# EAGLE library part DIODE-QUAD-SOT363-06 (library QuantumOptics)
Quad Diode Array, Diodes Inc, BAS70 series and similar, very small package SOT363. Based on BAS70DW <http://www.diodes.com/datasheets/ds30158.pdf>, http://www.diodes.com/datasheets/ds30158.pdf.
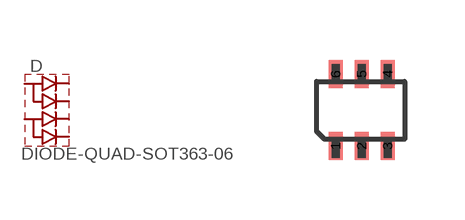
[diagram p75: symbol with the pads of SOT363; footprint SOT363]

Designator prefix D

## DIODE-QUAD-SOT363-06  [SOT363]
1  C1A  pas
2  C1B  pas
3  A2  pas
4  C2A  pas
5  C2B  pas
6  A1  pas

## Footprint SOT363 (pad centres in mm)
SOT-636, industry standard 6-pin package, smaller than SOT-23-6. Use 0.65mm (0.025") grid. Based on Diodes Inc BAS70 <http://www.diodes.com/datasheets/ds30158.pdf> package, http://www.diodes.com/datasheets/ds30158.pdf.
smd 0.35 x 0.7: 1 -0.65,-0.9; 2 0,-0.9; 3 0.65,-0.9; 4 0.65,0.9; 5 0,0.9; 6 -0.65,0.9